# EAGLE library part LTC6409 (library linear-technology)
Differential Amplifier/ADC Driver
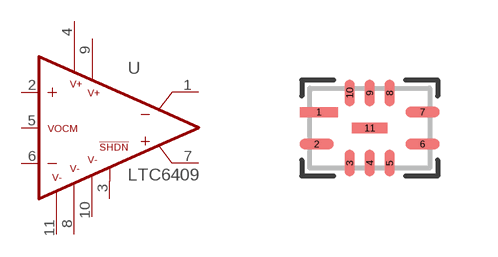
[diagram p49: symbol with the pads of QFN10-UDB; footprint QFN10-UDB]

Designator prefix U

## LTC6409 (P1I: o)  [QFN10-UDB]
1  -OUT  out
2  +IN  in
3  !SHDN!  in
4  V+  pwr
5  VOCM  in
6  -IN  in
7  +OUT  out
8  V-  pwr
9  V+  pwr
10  V-  pwr
11  V-  pwr

## Footprint QFN10-UDB (pad centres in mm)
10-Lead Plastic QFN body 3 × 2 mm
smd 0.95 x 0.25: 1 -1.275,0.4
smd 0.85 x 0.25: 2 -1.325,-0.4; 6 1.325,-0.4; 7 1.325,0.4
smd 0.25 x 0.65: 3 -0.5,-0.875; 4 0,-0.875; 5 0.5,-0.875; 8 0.5,0.875; 9 0,0.875; 10 -0.5,0.875
smd 0.9 x 0.25: 11 0,0